# EAGLE library part FDC6330 (library Fairchild-AON)
IC LOAD SWITCH INT 20VIN SSOT-6, 80mOhm, 2.5A
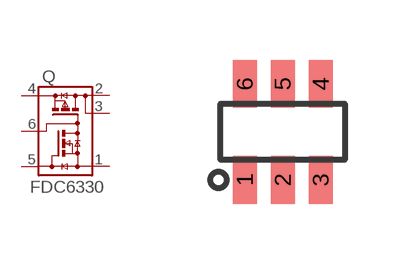
[diagram p3: symbol with the pads of SSOT-6; footprint SSOT-6]

Designator prefix Q

## FDC6330L  [SSOT-6]
1  Q1S
2  Q2D1
3  Q2D2
4  Q2S
5  Q1G  in
6  Q2G  in

## Footprint SSOT-6 (pad centres in mm)
SuperSOT-6
smd 0.6 x 1.2: 1 -0.95,-1.2; 2 0,-1.2; 3 0.95,-1.206; 4 0.95,1.2; 5 0,1.2; 6 -0.95,1.2